# Altium footprint library bc95.PcbLib: 5 footprints
Each footprint in its own frame and in the unit in brackets; x right, y up, seen from the top. Pads: shape width x height; smd on the part's side, far side on the other; paste and mask are expansions set on the pad; w line width, h text height; cw(c..) or ccw(c..) is an arc to the next point about the centre after c.
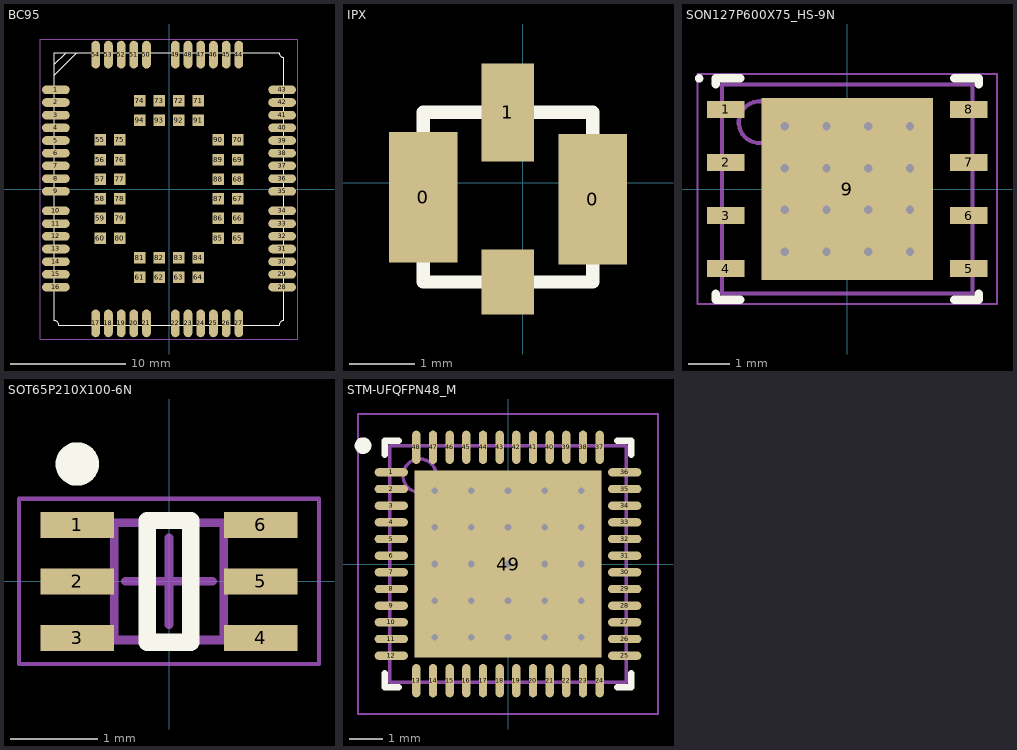
[diagram p0: the footprints below, top view; thin cyan lines are the x and y axes]

## BC95 [mm]
pads (94):
  oval 2.4x0.75 smd: 1(-9.8,8.6) 2(-9.8,7.5) 3(-9.8,6.4) 4(-9.8,5.3) 5(-9.8,4.2) 6(-9.8,3.1) 7(-9.8,2) 8(-9.8,0.9) 9(-9.8,-0.2) 10(-9.8,-1.9) 11(-9.8,-3) 12(-9.8,-4.1) 13(-9.8,-5.2) 14(-9.8,-6.3) 15(-9.8,-7.4) 16(-9.8,-8.5) 28(9.8,-8.5) 29(9.8,-7.4) 30(9.8,-6.3) 31(9.8,-5.2) 32(9.8,-4.1) 33(9.8,-3) 34(9.8,-1.9) 35(9.8,-0.2) 36(9.8,0.9) 37(9.8,2) 38(9.8,3.1) 39(9.8,4.2) 40(9.8,5.3) 41(9.8,6.4) 42(9.8,7.5) 43(9.8,8.6)
  oval 0.75x2.4 smd: 17(-6.35,-11.65) 18(-5.25,-11.65) 19(-4.15,-11.65) 20(-3.05,-11.65) 21(-1.95,-11.65) 22(0.55,-11.65) 23(1.65,-11.65) 24(2.75,-11.65) 25(3.85,-11.65) 26(4.95,-11.65) 27(6.05,-11.65) 44(6.05,11.65) 45(4.95,11.65) 46(3.85,11.65) 47(2.75,11.65) 48(1.65,11.65) 49(0.55,11.65) 50(-1.95,11.65) 51(-3.05,11.65) 52(-4.15,11.65) 53(-5.25,11.65) 54(-6.35,11.65)
  rect 1x1 smd: 55(-5.95,4.25) 56(-5.95,2.55) 57(-5.95,0.85) 58(-5.95,-0.85) 59(-5.95,-2.55) 60(-5.95,-4.25) 61(-2.55,-7.65) 62(-0.85,-7.65) 63(0.85,-7.65) 64(2.55,-7.65) 65(5.95,-4.25) 66(5.95,-2.55) 67(5.95,-0.85) 68(5.95,0.85) 69(5.95,2.55) 70(5.95,4.25) 71(2.55,7.65) 72(0.85,7.65) 73(-0.85,7.65) 74(-2.55,7.65) 75(-4.25,4.25) 76(-4.25,2.55) 77(-4.25,0.85) 78(-4.25,-0.85) 79(-4.25,-2.55) 80(-4.25,-4.25) 81(-2.55,-5.95) 82(-0.85,-5.95) 83(0.85,-5.95) 84(2.55,-5.95) 85(4.25,-4.25) 86(4.25,-2.55) 87(4.25,-0.85) 88(4.25,0.85) 89(4.25,2.55) 90(4.25,4.25) 91(2.55,5.95) 92(0.85,5.95) 93(-0.85,5.95) 94(-2.55,5.95)
Top Overlay:
  lines w0.1: -9.95,9.851 -8.001,11.8 -9.271,11.8 ; -9.95,10.033 -9.95,11.375 ; -9.95,10.414 -9.95,11.8 ; -9.931,10.82 -8.966,11.786 ; -8.437,11.8 -9.95,11.8 ; -9.95,11.8 -9.95,-11.4 cw(c-9.95,-11.8) -9.55,-11.8 9.55,-11.8 cw(c9.95,-11.8) 9.95,-11.4 9.95,11.4 cw(c9.95,11.8) 9.55,11.8 -9.95,11.8
Mechanical 1:
  lines w0.01: -11.15,-13 11.15,-13 11.15,13 -11.15,13 -11.15,-13

## IPX [mm]
pads (4):
  rect 1.054x2 smd: 0(-1.524,-0.229) 0(1.076,-0.254)
  rect 0.8x1.5 smd: 1(-0.229,1.076)
  rect 0.8x1 smd: ""(-0.229,-1.524)
Top Overlay:
  lines w0.203: -1.524,-1.524 -1.524,1.076 1.076,1.076 1.076,-1.524 -1.524,-1.524

## SON127P600X75_HS-9N [mm] "SON, 8-Leads, Body 5.00x6.00mm, Pitch 1.27mm, Thermal Pad 4.35x4.10mm, IPC Medium Density"
height 0.75
pads (9):
  rect 0.9x0.4 smd: 1(-2.91,1.905) 2(-2.91,0.635) 3(-2.91,-0.635) 4(-2.91,-1.905) 5(2.91,-1.905) 6(2.91,-0.635) 7(2.91,0.635) 8(2.91,1.905)
  rect 4.1x4.35 smd paste-2.05: 9(0,0)
via 1.5,-1.5 diameter 0.5 hole 0.2
via 0.5,-1.5 diameter 0.5 hole 0.2
via -0.5,-1.5 diameter 0.5 hole 0.2
via -1.5,-1.5 diameter 0.5 hole 0.2
via 1.5,-0.5 diameter 0.5 hole 0.2
via 0.5,-0.5 diameter 0.5 hole 0.2
via -0.5,-0.5 diameter 0.5 hole 0.2
via -1.5,-0.5 diameter 0.5 hole 0.2
via 1.5,0.5 diameter 0.5 hole 0.2
via 0.5,0.5 diameter 0.5 hole 0.2
via -0.5,0.5 diameter 0.5 hole 0.2
via -1.5,0.5 diameter 0.5 hole 0.2
via 1.5,1.5 diameter 0.5 hole 0.2
via 0.5,1.5 diameter 0.5 hole 0.2
via -0.5,1.5 diameter 0.5 hole 0.2
via -1.5,1.5 diameter 0.5 hole 0.2
Top Overlay:
  circle w0.1: c-3.55,2.65 r0.05
  lines w0.2: -3.15,-2.505 -3.15,-2.65 -2.56,-2.65 ; -3.15,2.505 -3.15,2.65 -2.56,2.65 ; 2.56,-2.65 3.15,-2.65 3.15,-2.505 ; 2.56,2.65 3.15,2.65 3.15,2.505
Top Paste:
  rectangle: 0.785,-2.075 1.955,-0.825
  rectangle: 0.785,-0.625 1.955,0.625
  rectangle: 0.785,0.825 1.955,2.075
  rectangle: -0.585,-2.075 0.585,-0.825
  rectangle: -0.585,-0.625 0.585,0.625
  rectangle: -0.585,0.825 0.585,2.075
  rectangle: -1.955,-2.075 -0.785,-0.825
  rectangle: -1.955,-0.625 -0.785,0.625
  rectangle: -1.955,0.825 -0.785,2.075
Mechanical 13:
  circle w0.1: c-2.1,1.6 r0.5
  lines w0.1: -3,-2.5 3,-2.5 3,2.5 -3,2.5 -3,-2.5
Mechanical 15:
  lines w0.05: -3.585,-2.75 3.585,-2.75 3.585,2.75 -3.585,2.75 -3.585,-2.75
  lines w0.1: -0.5,0 0.5,0 ; 0,-0.5 0,0.5
3D body: height 0.75, standoff 0.02, extent -3,-2.5 3,2.5

## SOT65P210X100-6N [mm] "SOT23, 6-Leads, Body 1.25x2.10mm, Pitch 0.65mm, IPC Medium Density"
height 1
pads (6):
  rect 0.85x0.3 smd: 1(-1.055,0.65) 2(-1.055,0) 3(-1.055,-0.65) 4(1.055,-0.65) 5(1.055,0) 6(1.055,0.65)
Top Overlay:
  circle w0.25: c-1.055,1.35 r0.125
  lines w0.2: -0.25,-0.7 0.25,-0.7 0.25,0.7 -0.25,0.7 -0.25,-0.7
Mechanical 13:
  lines w0.1: -0.63,-0.675 -0.63,0.675 0.63,0.675 0.63,-0.675 -0.63,-0.675
Mechanical 15:
  lines w0.05: -1.725,-0.95 -1.725,0.95 1.725,0.95 1.725,-0.95 -1.725,-0.95
  lines w0.1: -0.5,0 0.5,0 ; 0,-0.5 0,0.5
3D body: height 1, standoff 0.1, extent -0.63,-0.675 0.63,0.675

## STM-UFQFPN48_M [mm] "QFN, 48-Leads, Body 7.1x7.1mm, Pitch 0.5mm, Thermal Pad 5.6x5.6mm, IPC Low Density"
height 0.6
pads (49):
  oval 1x0.25 smd: 1(-3.5,2.75) 2(-3.5,2.25) 3(-3.5,1.75) 4(-3.5,1.25) 5(-3.5,0.75) 6(-3.5,0.25) 7(-3.5,-0.25) 8(-3.5,-0.75) 9(-3.5,-1.25) 10(-3.5,-1.75) 11(-3.5,-2.25) 12(-3.5,-2.75) 25(3.5,-2.75) 26(3.5,-2.25) 27(3.5,-1.75) 28(3.5,-1.25) 29(3.5,-0.75) 30(3.5,-0.25) 31(3.5,0.25) 32(3.5,0.75) 33(3.5,1.25) 34(3.5,1.75) 35(3.5,2.25) 36(3.5,2.75)
  oval 0.25x1 smd: 13(-2.75,-3.5) 14(-2.25,-3.5) 15(-1.75,-3.5) 16(-1.25,-3.5) 17(-0.75,-3.5) 18(-0.25,-3.5) 19(0.25,-3.5) 20(0.75,-3.5) 21(1.25,-3.5) 22(1.75,-3.5) 23(2.25,-3.5) 24(2.75,-3.5) 37(2.75,3.5) 38(2.25,3.5) 39(1.75,3.5) 40(1.25,3.5) 41(0.75,3.5) 42(0.25,3.5) 43(-0.25,3.5) 44(-0.75,3.5) 45(-1.25,3.5) 46(-1.75,3.5) 47(-2.25,3.5) 48(-2.75,3.5)
  rect 5.6x5.6 smd: 49(0,0)
via 2.2,-2.2 diameter 0.5 hole 0.2
via 1.1,-2.2 diameter 0.5 hole 0.2
via 0,-2.2 diameter 0.5 hole 0.2
via -1.1,-2.2 diameter 0.5 hole 0.2
via -2.2,-2.2 diameter 0.5 hole 0.2
via 2.2,-1.1 diameter 0.5 hole 0.2
via 1.1,-1.1 diameter 0.5 hole 0.2
via 0,-1.1 diameter 0.5 hole 0.2
via -1.1,-1.1 diameter 0.5 hole 0.2
via -2.2,-1.1 diameter 0.5 hole 0.2
via 2.2,0 diameter 0.5 hole 0.2
via 1.1,0 diameter 0.5 hole 0.2
via 0,0 diameter 0.5 hole 0.2
via -1.1,0 diameter 0.5 hole 0.2
via -2.2,0 diameter 0.5 hole 0.2
via 2.2,1.1 diameter 0.5 hole 0.2
via 1.1,1.1 diameter 0.5 hole 0.2
via 0,1.1 diameter 0.5 hole 0.2
via -1.1,1.1 diameter 0.5 hole 0.2
via -2.2,1.1 diameter 0.5 hole 0.2
via 2.2,2.2 diameter 0.5 hole 0.2
via 1.1,2.2 diameter 0.5 hole 0.2
via 0,2.2 diameter 0.5 hole 0.2
via -1.1,2.2 diameter 0.5 hole 0.2
via -2.2,2.2 diameter 0.5 hole 0.2
Top Overlay:
  circle w0.25: c-4.35,3.55 r0.125
  lines w0.2: -3.7,-3.275 -3.7,-3.7 -3.275,-3.7 ; -3.7,3.275 -3.7,3.7 -3.275,3.7 ; 3.275,-3.7 3.7,-3.7 3.7,-3.275 ; 3.275,3.7 3.7,3.7 3.7,3.275
Mechanical 13:
  circle w0.1: c-2.65,2.65 r0.5
  lines w0.1: -3.55,-3.55 3.55,-3.55 3.55,3.55 -3.55,3.55 -3.55,-3.55
Mechanical 15:
  lines w0.05: -4.5,-4.5 4.5,-4.5 4.5,4.5 -4.5,4.5 -4.5,-4.5
  lines w0.1: -0.5,0 0.5,0 ; 0,-0.5 0,0.5
3D body: height 0.6, standoff 0, extent -3.55,-3.55 3.55,3.55